# Altium schematic symbol library RC0805FR-1047KL.SchLib: 1 symbol
Pins are listed as number, name and electrical type; pins without a type are passive.

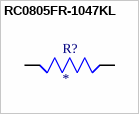
[diagram p0: symbol RC0805FR-1047KL]

## RC0805FR-1047KL
designator R?
MP: RC0805FR-1047KL; Price: None; Availability: Unavailable; Value: *; Package: None
footprint RESC2012X60N
pins: 1, 2